# Altium schematic symbol library SCH - POWER - LINEAR VREG - TI LP38502ASD-ADJ.SchLib: 1 symbol
Pins are listed as number, name and electrical type; pins without a type are passive.

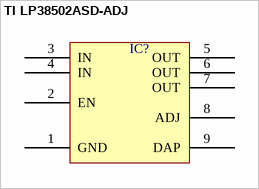
[diagram p0: symbol TI LP38502ASD-ADJ]

## TI LP38502ASD-ADJ
designator IC?  (value not drawn)
pins: 1 GND, 2 EN, 3 IN, 4 IN, 5 OUT, 6 OUT, 7 OUT, 8 ADJ, 9 DAP